# Altium footprint library varistor.PCBLIB: 93 footprints (part 1 of 6)
Each footprint in its own frame and in the unit in brackets; x right, y up, seen from the top. Pads: shape width x height; smd on the part's side, far side on the other; paste and mask are expansions set on the pad; w line width, h text height; cw(c..) or ccw(c..) is an arc to the next point about the centre after c.
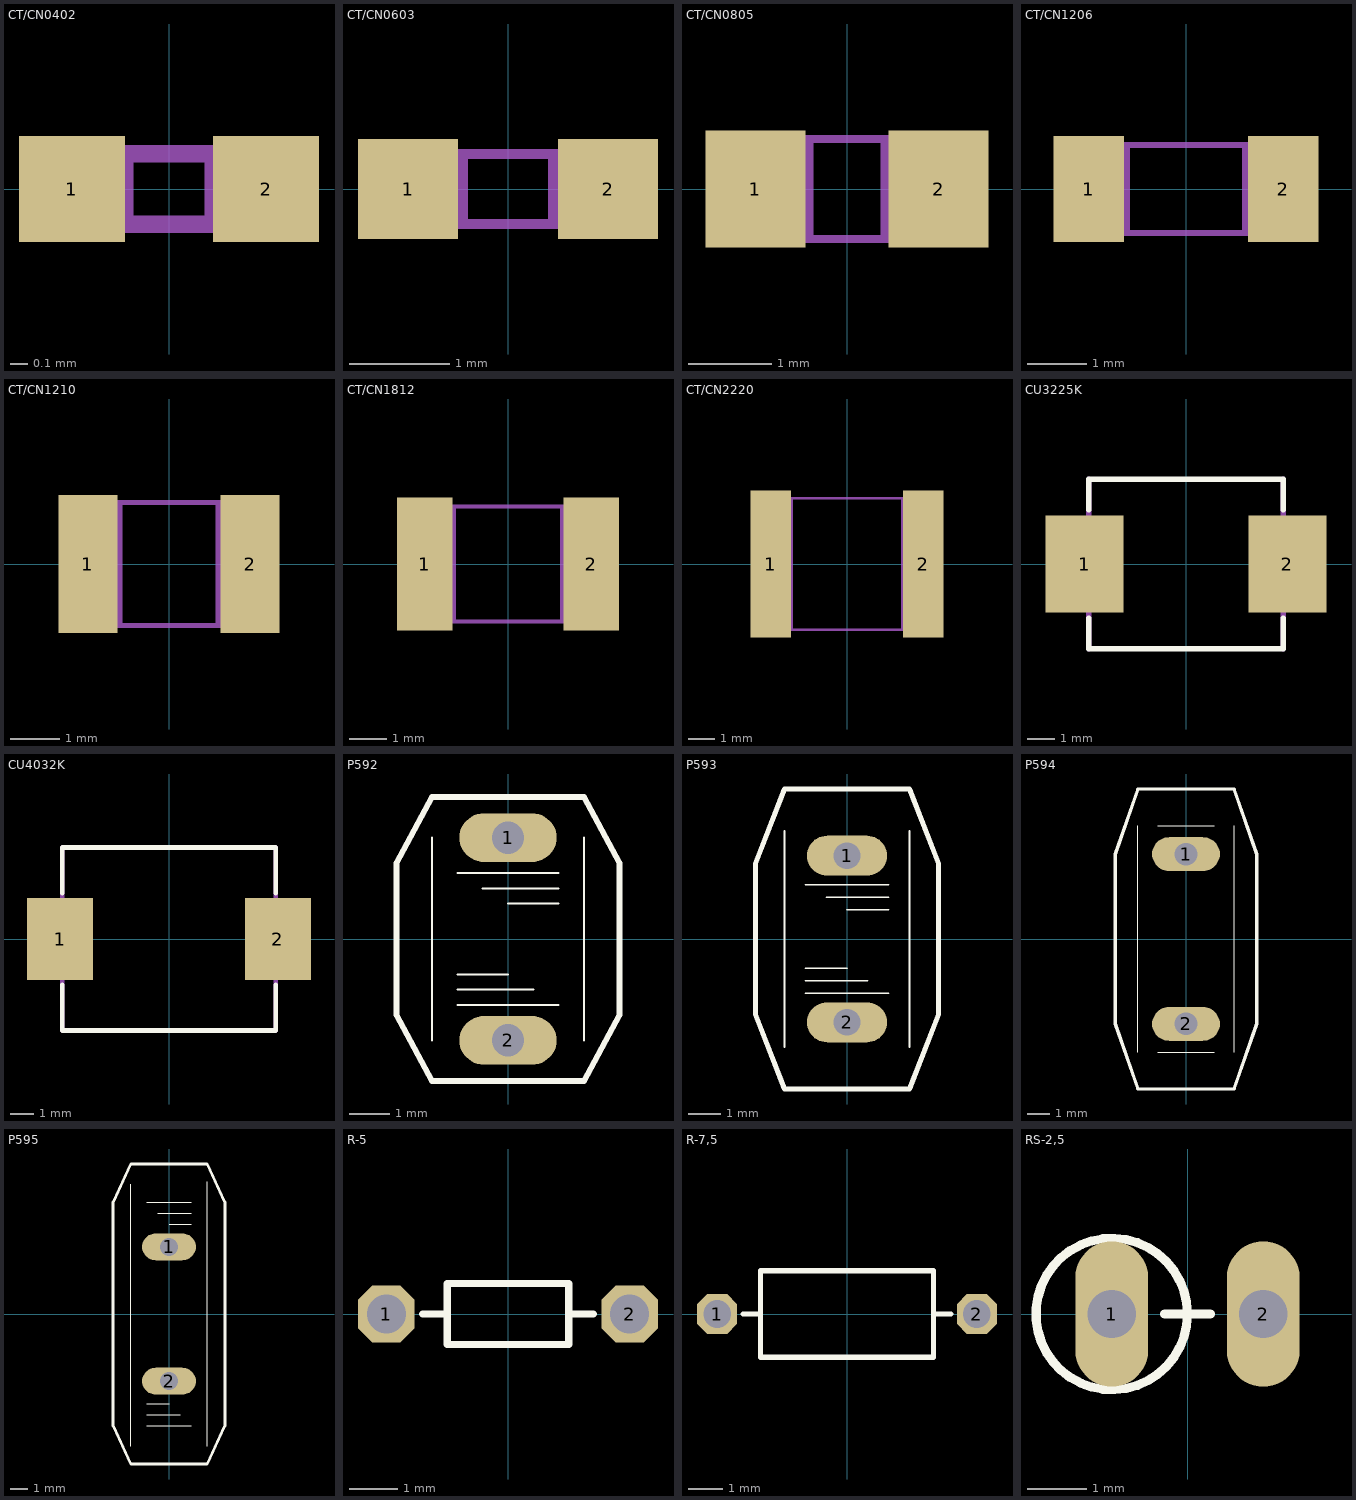
[diagram p0: the footprints below, top view; thin cyan lines are the x and y axes]

## CT/CN0402 [mil]
pads (2):
  rect 23.62x23.62 smd: 1(-21.65,0) 2(21.65,0)
Mechanical 4:
  region: 17.72,7.87 7.87,7.87 7.87,-7.87 17.72,-7.87
  rectangle: -17.72,-7.87 -7.87,7.87
  lines w4: -17.72,-7.87 -17.72,7.87 17.72,7.87 17.72,-7.87 -17.72,-7.87

## CT/CN0603 [mm]
pads (2):
  rect 1x1 smd: 1(-1,0) 2(1,0)
Mechanical 4:
  rectangle: -0.75,-0.35 -0.4,0.35
  region: 0.75,0.35 0.4,0.35 0.4,-0.35 0.75,-0.35
  lines w0.102: -0.75,-0.35 0.75,-0.35 0.75,0.35 -0.75,0.35 -0.75,-0.35

## CT/CN0805 [mil]
pads (2):
  rect 47.24x55.12 smd: 1(-43.31,0) 2(43.31,0)
Mechanical 4:
  region: 37.4,23.62 15.75,23.62 15.75,-23.62 37.4,-23.62
  rectangle: -37.4,-23.62 -15.75,23.62
  lines w4: -37.4,-23.62 -37.4,23.62 37.4,23.62 37.4,-23.62 -37.4,-23.62

## CT/CN1206 [mm]
pads (2):
  rect 1.2x1.8 smd: 1(-1.65,0) 2(1.65,0)
Mechanical 4:
  rectangle: -1.65,-0.75 -0.95,0.75
  region: 1.65,0.75 0.95,0.75 0.95,-0.75 1.65,-0.75
  lines w0.102: -1.65,-0.75 1.65,-0.75 1.65,0.75 -1.65,0.75 -1.65,-0.75

## CT/CN1210 [mm]
pads (2):
  rect 1.2x2.8 smd: 1(-1.65,0) 2(1.65,0)
Mechanical 4:
  region: 1.65,1.25 0.95,1.25 0.95,-1.25 1.65,-1.25
  rectangle: -1.65,-1.25 -0.95,1.25
  lines w0.102: -1.65,-1.25 -1.65,1.25 1.65,1.25 1.65,-1.25 -1.65,-1.25

## CT/CN1812 [mil]
pads (2):
  rect 59.06x141.73 smd: 1(-88.58,0) 2(88.58,0)
Mechanical 4:
  region: 92.52,61.02 55.12,61.02 55.12,-61.02 92.52,-61.02
  rectangle: -92.52,-61.02 -55.12,61.02
  lines w4: -92.52,-61.02 -92.52,61.02 92.52,61.02 92.52,-61.02 -92.52,-61.02

## CT/CN2220 [mil]
pads (2):
  rect 59.06x216.54 smd: 1(-112.2,0) 2(112.2,0)
Mechanical 4:
  region: 116.14,96.46 79.13,96.46 79.13,-96.06 116.14,-96.06
  rectangle: -116.14,-96.46 -79.13,96.06
  lines w4: -116.14,-96.46 -116.14,96.46 116.14,96.46 116.14,-96.46 -116.14,-96.46

## CU3225K [mil]
pads (2):
  rect 110.24x137.8 smd: 1(-143.7,0) 2(143.7,0)
Top Overlay:
  lines w8: -137.8,-76.77 -137.8,-120.08 137.8,-120.08 137.8,-76.77 ; -137.8,76.77 -137.8,120.08 137.8,120.08 137.8,76.77
Mechanical 4:
  region: 157.48,59.06 141.73,59.06 141.73,-59.06 157.48,-59.06
  rectangle: -157.48,-59.06 -141.73,59.06
  lines w8: -137.8,-120.08 -137.8,120.08 ; 137.8,-120.08 137.8,120.08

## CU4032K [mil]
pads (2):
  rect 110.24x137.8 smd: 1(-183.07,0) 2(183.07,0)
Top Overlay:
  lines w8: -179.13,-76.77 -179.13,-153.54 179.13,-153.54 179.13,-76.77 ; -179.13,76.77 -179.13,153.54 179.13,153.54 179.13,76.77
Mechanical 4:
  region: 198.82,59.06 183.07,59.06 183.07,-59.06 198.82,-59.06
  rectangle: -198.82,-59.06 -183.07,59.06
  lines w8: -179.13,-153.54 -179.13,153.54 ; 179.13,-153.54 179.13,153.54

## P592 [mil]
pads (2):
  oval 96x48 hole 32: 1(0,100) 2(0,-100)
Top Overlay:
  lines w2: -75,-100 -75,100 ; -50,-65 50,-65 ; -50,-50 25,-50 ; -50,-35 0,-35 ; -50,65 50,65 ; -25,50 50,50 ; 0,35 50,35 ; 75,-100 75,100
  lines w6: -110,-75 -75,-140 75,-140 110,-75 110,75 75,140 -75,140 -110,75 -110,-75

## P593 [mil]
pads (2):
  oval 96x48 hole 32: 1(0,100) 2(0,-100)
Top Overlay:
  lines w2: -75,-130 -75,130 ; -50,-65 50,-65 ; -50,-50 25,-50 ; -50,-35 0,-35 ; -50,65 50,65 ; -25,50 50,50 ; 0,35 50,35 ; 75,-130 75,130
  lines w6: -110,-90 -75,-180 75,-180 110,-90 110,90 75,180 -75,180 -110,90 -110,-90

## P594 [mil]
pads (2):
  oval 120x60 hole 40: 1(0,150) 2(0,-150)
Top Overlay:
  lines w2: -85,-200 -85,200 ; -50,-200 50,-200 ; -50,200 50,200 ; 85,-200 85,200
  lines w6: -125,-150 -85,-265 85,-265 125,-150 125,150 85,265 -85,265 -125,150 -125,-150
Mechanical 4:
  lines w2: -50,-165 25,-165 ; -50,-130 0,-130 ; -25,165 50,165 ; 0,130 50,130

## P595 [mil]
pads (2):
  oval 120x60 hole 40: 1(0,150) 2(0,-150)
Top Overlay:
  lines w2: -85,-295 -85,290 ; -50,-250 50,-250 ; -50,-225 25,-225 ; -50,-200 0,-200 ; -50,250 50,250 ; -25,225 50,225 ; 0,200 50,200 ; 85,-295 85,295
  lines w6: -125,-250 -85,-335 85,-335 125,-250 125,250 85,335 -85,335 -125,250 -125,-250

## R-5 [mil]
pads (2):
  oct 46.48x46.48 hole 32: 1(-100,0) 2(100,0)
Top Overlay:
  lines w6: -70,0 -50,0 ; 70,0 50,0 ; -50,0 -50,-25 50,-25 50,0 ; -50,0 -50,25 50,25 50,0

## R-7,5 [mil]
pads (2):
  oct 46.48x46.48 hole 32: 1(-150,0) 2(150,0)
Top Overlay:
  lines w6: -120,0 -100,0 ; 120,0 100,0 ; -100,0 -100,-50 100,-50 100,0 ; -100,0 -100,50 100,50 100,0

## RS-2,5 [mil]
pads (2):
  oval 48x96 hole 32: 1(-50,0) 2(50,0)
Top Overlay:
  circle w6: c-50,0 r50
  lines w6: -15,0 15,0